# Altium schematic symbol library Altium_Jack.SchLib: 4 symbols
Pins are listed as number, name and electrical type; pins without a type are passive.

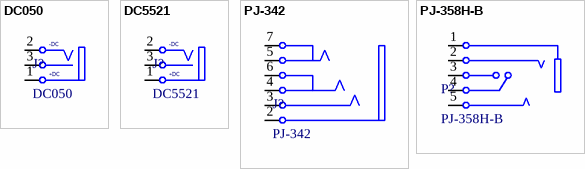
[diagram p0: symbols DC050 to PJ-358H-B]

## DC050
designator J?
Surface Mount，Right Angle DC Power Receptacle 2mm 6.4mm 4A 16V SMD AC/DC Power Connectors ROHS; Manufacturer: OEM; Manufacturer Part Number: SHOU HAN; Rated Current: 2.5A; ComponentLink1Description: Datasheet link; ComponentLink1URL: https://datasheet.lcsc.com/lcsc/1912111437_SHOU-HAN-DC050-T_C431534.pdf?_gl=1*18nk6nd*_ga*MTI1Mzk4MDEzNi4xNzAxOTIwNDk2*_ga_98M84MKSZH*MTcxMTA5NjQ0Ny4xNjYuMS4xNzExMTAwNDQzLjI2LjAuMA..; Mount: SMD/SMT; Number of Pins: 4; Operating Temperature Max: N/A; Operating Temperature Min: N/A; Packaging: N/A; Supplier 1 URL: N/A; Supplier 2 URL: N/A; Supplier 3 URL: https://www.thegioiic.com/dc050-dau-noi-nguon-dc-cai-5521-dan-smd-kim-2-1mm; Value: DC050; LCSC Part #: C431534; Supplier 1: Mouser; Supplier 1 Part Number: N/A; Supplier 2: Digi-Key; Supplier 2 Part Number: N/A; Supplier 3: thegioiic; Supplier 3 Part Number: DC050; Voltage Rating DC: 16V
footprint DC050
pins: 1 T "Tip", 2 TN "Tip Normal (Break Contact)", 3 S (power) "Sleeve (Ground)"
text: -DC; +DC

## DC5521
designator J?
Manufacturer: OEM; Rated Current: 2.5A; Voltage Rating DC: 16V; ComponentLink1Description: Datasheet link; ComponentLink1URL: N/A; Manufacturer Part Number: N/A; Mount: THT; Number of Pins: 3; Operating Temperature Max: N/A; Operating Temperature Min: N/A; Packaging: N/A; Supplier 1 URL: N/A; Supplier 2 URL: N/A; Supplier 3 URL: https://www.thegioiic.com/dc050-dau-noi-nguon-dc-cai-5521-dan-smd-kim-2-1mm; Value: DC5521; LCSC Part #: N/A; Supplier 1: Mouser; Supplier 1 Part Number: N/A; Supplier 2: Digi-Key; Supplier 2 Part Number: N/A; Supplier 3: thegioiic; Supplier 3 Part Number: DC5521
footprint DC5521 (Jac DC input)
pins: 1 T "Tip", 2 TN "Tip Normal (Break Contact)", 3 S (power) "Sleeve (Ground)"
text: -DC; +DC

## PJ-342
designator J?
-30℃~+70℃ 3.5mm headphone jack 30V 500mA SMD Audio Connectors ROHS; Manufacturer: SHOU HAN; Rated Current: 2.5A; ComponentLink1Description: Datasheet link; ComponentLink1URL: https://datasheet.lcsc.com/lcsc/2006301234_SHOU-HAN-PJ-342_C668606.pdf?_gl=1*1tpi1co*_ga*MTI1Mzk4MDEzNi4xNzAxOTIwNDk2*_ga_98M84MKSZH*MTcxMTA5NjQ0Ny4xNjYuMS4xNzExMDk4NjczLjU5LjAuMA..; Manufacturer Part Number: PJ-342; Mount: SMD/SMT; Number of Pins: 3; Operating Temperature Max: + 70 C; Operating Temperature Min: - 30 C; Packaging: N/A; Supplier 1 URL: N/A; Supplier 2 URL: N/A; Supplier 3 URL: https://www.thegioiic.com/pj-342s-cong-audio-3-5mm-4-cuc-6-chan-dan-smd; Value: PJ-342; LCSC Part #: C668606; Supplier 1: Mouser; Supplier 1 Part Number: N/A; Supplier 2: Digi-Key; Supplier 2 Part Number: N/A; Supplier 3: thegioiic; Supplier 3 Part Number: PJ-342S; Voltage Rating DC: 30V
footprint PJ-342
pins: 2 MIC "Tip", 3 GND "Tip Normal (Break Contact)", 4 RIGHT (power) "Sleeve (Ground)", 5 LEFT "Tip Normal (Break Contact)", 6 RIGHT "Tip Normal (Break Contact)", 7 LEFT "Tip Normal (Break Contact)"

## PJ-358H-B
designator P?
-20℃~+70℃ 3.5mm Headphone Jack 30V 500mA Through Hole Audio Connectors RoHS; Manufacturer: XKB Connection; Rated Current: 300mA; ComponentLink1Description: Datasheet link; ComponentLink1URL: https://www.lcsc.com/datasheet/C500091.pdf; LCSC Part #: C500091; Manufacturer Part Number: PJ-358H-B; Mount: THT; Number of Pins: 5; Operating Temperature Max: + 70 C; Operating Temperature Min: - 20 C; Packaging: N/A; Supplier 1: Mouser; Supplier 1 Part Number: N/A; Supplier 1 URL: N/A; Supplier 2: Digi-Key; Supplier 2 Part Number: N/A; Supplier 2 URL: N/A; Supplier 3: thegioiic; Supplier 3 Part Number: N/A; Supplier 3 URL: N/A; Value: PJ-358H-B; Voltage Rating DC: 30V
footprint PJ-358H-B
pins: 1 T "Tip", 2 TN "Tip Normal (Break Contact)", 3 S (power) "Sleeve (Ground)", 4 S (power) "Sleeve (Ground)", 5 S (power) "Sleeve (Ground)"